# Altium footprint library PCB - PHOTODIODES - VISHAY VEMD2000X01.PCBLIB: 1 footprints
Each footprint in its own frame and in the unit in brackets; x right, y up, seen from the top. Pads: shape width x height; smd on the part's side, far side on the other; paste and mask are expansions set on the pad; w line width, h text height; cw(c..) or ccw(c..) is an arc to the next point about the centre after c.
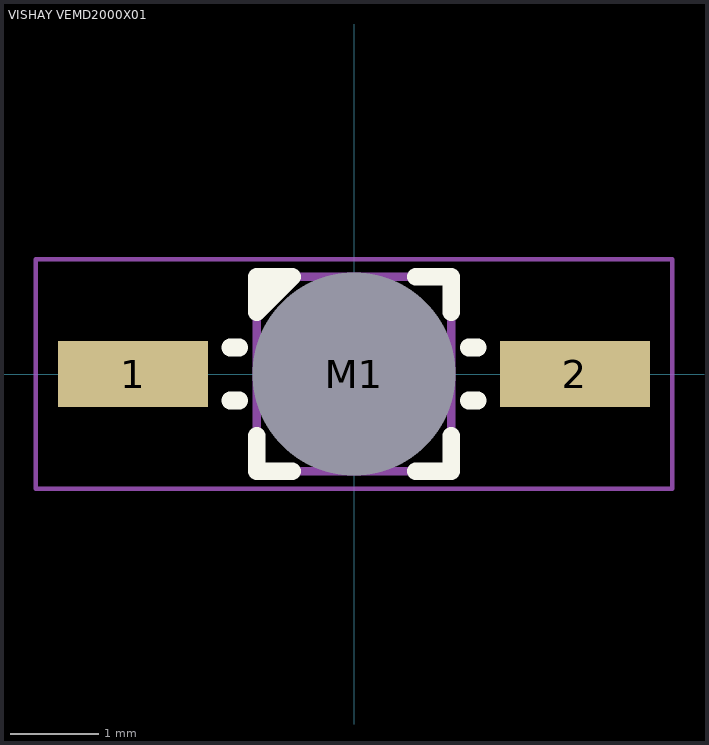
[diagram p0: the footprint, top view; thin cyan lines are the x and y axes]

## VISHAY VEMD2000X01 [mm] "Silicon PIN Photodiode bottom mount"
height 1.6
pads (3):
  rect 1.7x0.75 smd: 1(-2.5,0) 2(2.5,0)
  round 2 hole 2.3 unplated: M1(0,0)
Top Overlay:
  region: -1.1,0.7 -1.1,1.1 -0.7,1.1
  lines w0.2: -1.4,-0.3 -1.3,-0.3 ; -1.4,0.3 -1.3,0.3 ; -1.1,-0.7 -1.1,-1.1 -0.7,-1.1 ; 0.7,-1.1 1.1,-1.1 1.1,-0.7 ; 0.7,1.1 1.1,1.1 1.1,0.7 ; 1.3,-0.3 1.4,-0.3 ; 1.3,0.3 1.4,0.3 ; -1.1,0.7 -1.1,1.1 -0.7,1.1 -1.1,0.7
Mechanical 13:
  lines w0.1: -1.1,-1.1 1.1,-1.1 1.1,1.1 -1.1,1.1 -1.1,-1.1
Mechanical 15:
  lines w0.05: -3.6,-1.3 3.6,-1.3 3.6,1.3 -3.6,1.3 -3.6,-1.3
  lines w0.1: -0.5,0 0.5,0 ; 0,-0.5 0,0.5
3D body "Vishay VEMD2000X01.step": height 1.65, standoff -1.12, extent -2.913,-1.1 2.913,1.1